# EAGLE library part MCP3424*/? (library MCP)
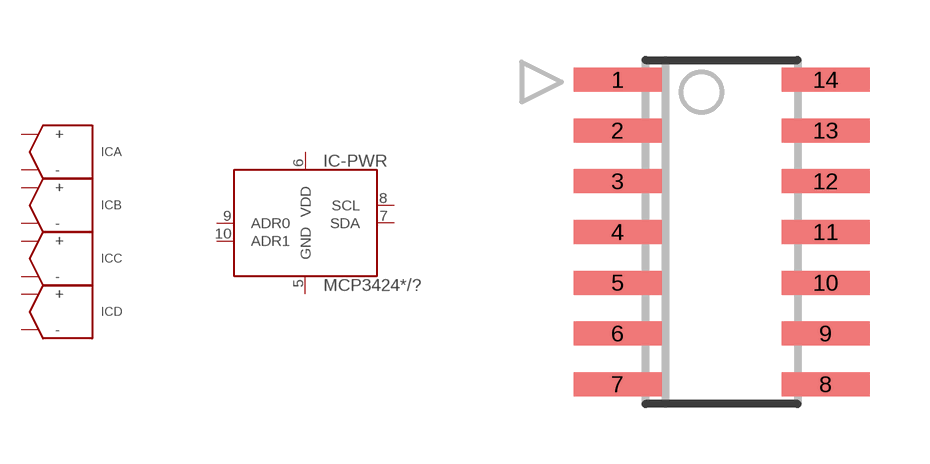
[diagram p4: symbol with the pads of SOIC-14; footprint SOIC-14]

Designator prefix IC; gates -PWR=MCP3224-IOPWR A=MCP3224-ADC B=MCP3224-ADC C=MCP3224-ADC D=MCP3224-ADC

## MCP3424T-E/SL (ADDRESS: 0x68; MF: Microchip; MPN: MP3424T-E/SL)  [SOIC-14]
1  A:+  in
2  A:-  in
3  B:+  in
4  B:-  in
5  -PWR:GND  pwr
6  -PWR:VDD  pwr
7  -PWR:SDA  oc
8  -PWR:SCL  oc
9  -PWR:ADR0  in
10  -PWR:ADR1  in
11  C:+  in
12  C:-  in
13  D:+  in
14  D:-  in

## Footprint SOIC-14 (pad centres in mm)
14-Lead Narrow-Body SOIC (SO-14) Source: http://www.analog.com/static/imported-files/data_sheets/SSM2166.pdf
smd 2.2 x 0.6: 1 -2.6,3.81; 2 -2.6,2.54; 3 -2.6,1.27; 4 -2.6,0; 5 -2.6,-1.27; 6 -2.6,-2.54; 7 -2.6,-3.81; 8 2.6,-3.81; 9 2.6,-2.54; 10 2.6,-1.27; 11 2.6,0; 12 2.6,1.27; 13 2.6,2.54; 14 2.6,3.81